# Altium schematic symbol library MKP1848S61010JY5B.SchLib: 1 symbol
Pins are listed as number, name and electrical type; pins without a type are passive.

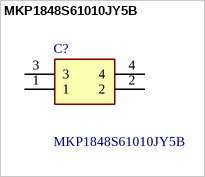
[diagram p0: symbol MKP1848S61010JY5B]

## MKP1848S61010JY5B
designator C?
10 F Film Capacitor 1000V (1kV) Polypropylene (PP), Metallized Radial - 4 Leads; Manufacturer_Name: Vishay; Geometry.Height: 15mm; Mouser Part Number: 75-MKP1848S61010JY5B; Mouser Price/Stock: https://www.mouser.co.uk/ProductDetail/Vishay-Roederstein/MKP1848S61010JY5B?qs=KOdD7VNvzR%2F1kfZ42yGaMQ%3D%3D; Manufacturer_Part_Number: MKP1848S61010JY5B; Datasheet Link: http://www.vishay.com/docs/26010/mkp1848sdclink.pdf
footprint MKP1848S61010JY5B
pins: 1, 2, 3, 4